# EAGLE library part ARDUINO_CONN-ANALOG (library arduino_jw)
Arduino Analog I/O Header This is the analog I/O header on the Arduino Uno R3. This connector is labeled with the following pin assignments: Analog 0 Analog 1 Analog 2 Analog 3 Analog 4 Analog 5 NOTE: Be sure you install this connector with the correct orientation on your PCB layout. Pin 1 has a square pad to assist with orientation.
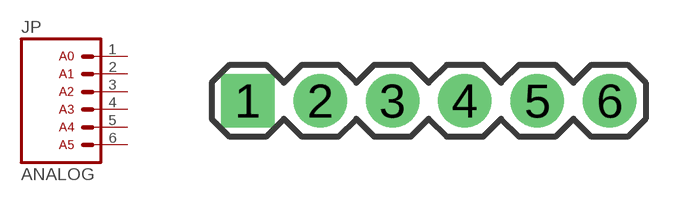
[diagram p0: symbol with the pads of CONN-1X06; footprint CONN-1X06]

Designator prefix JP

## ARDUINO_CONN-ANALOGSIP  [CONN-1X06]
1  1  pas
2  2  pas
3  3  pas
4  4  pas
5  5  pas
6  6  pas

## Footprint CONN-1X06 (pad centres in mm)
1x6 SIP header with pin 1 marked by a square pad.
drill 1.016 pad 1.88 square: 1 0,0
drill 1.016 pad 1.88: 2 2.54,0; 3 5.08,0; 4 7.62,0; 5 10.16,0; 6 12.7,0